# Altium footprint library WH-LTE-7S1.PcbLib: 1 footprints
Each footprint in its own frame and in the unit in brackets; x right, y up, seen from the top. Pads: shape width x height; smd on the part's side, far side on the other; paste and mask are expansions set on the pad; w line width, h text height; cw(c..) or ccw(c..) is an arc to the next point about the centre after c.
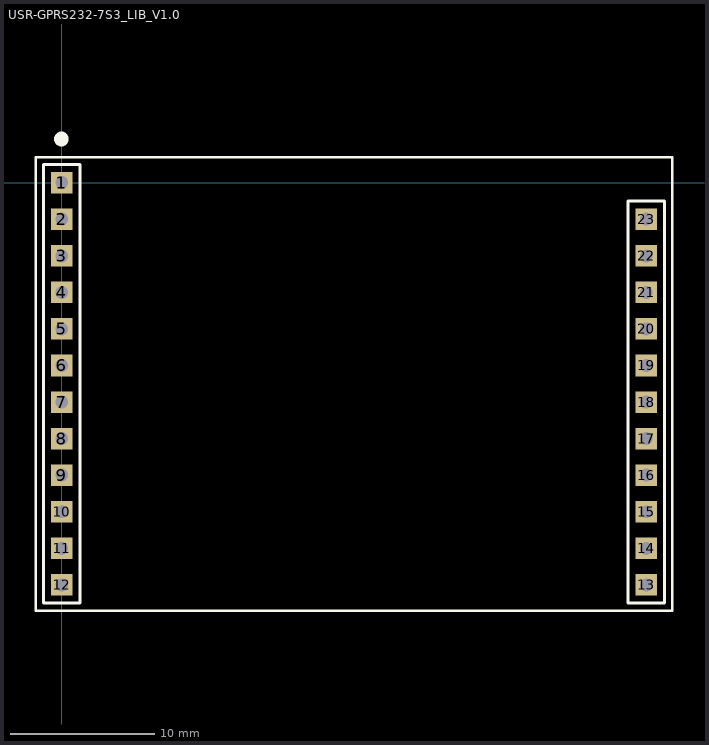
[diagram p0: the footprint, top view; thin cyan lines are the x and y axes]

## USR-GPRS232-7S3_LIB_V1.0 [mm]
pads (23):
  rect 1.5x1.5 hole 0.9: 1(0,0) 2(0,-2.54) 3(0,-5.08) 4(0,-7.62) 5(0,-10.16) 6(0,-12.7) 7(0,-15.24) 8(0,-17.78) 9(0,-20.32) 10(0,-22.86) 11(0,-25.4) 12(0,-27.94) 13(40.6,-27.94) 14(40.6,-25.4) 15(40.6,-22.86) 16(40.6,-20.32) 17(40.6,-17.78) 18(40.6,-15.24) 19(40.6,-12.7) 20(40.6,-10.16) 21(40.6,-7.62) 22(40.6,-5.08) 23(40.6,-2.54)
Top Overlay:
  circle w0.762: c-0.022,3.03 r0.127
  lines w0.152: -1.8,-29.74 42.4,-29.74 42.4,1.76 -1.8,1.76 -1.8,-29.74
  lines w0.2: -1.27,-29.21 1.27,-29.21 1.27,-0.635 1.27,1.27 -1.27,1.27 -1.27,-29.21 ; 39.33,-29.21 41.87,-29.21 41.87,-3.175 41.87,-1.27 39.33,-1.27 39.33,-29.21